# EAGLE library part N-PMOSFET (library N-PMosfet)
http://www.digikey.com/product-detail/en/stmicroelectronics/STL40C30H3LL/497-15314-1-ND/5170833
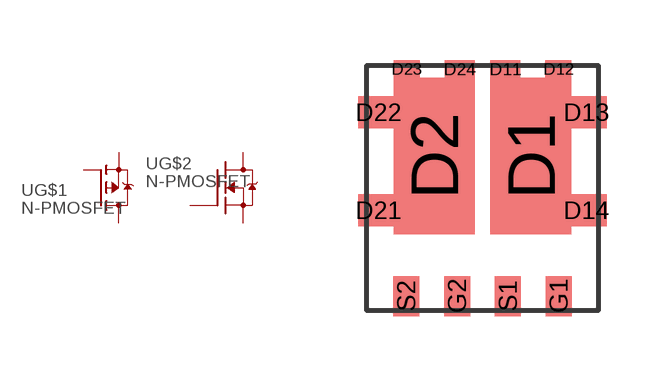
[diagram p0: symbol with the pads of 5X6POWERFLAT; footprint 5X6POWERFLAT]

Designator prefix -; gates G$1=P-MOSFET G$2=N-MOSFET-GDS-D

## N-PMOSFET  [5X6POWERFLAT]
D1  G$1:D  pas
D2  G$2:D  pas
D11  G$1:D  pas
D12  G$1:D  pas
D13  G$1:D  pas
D14  G$1:D  pas
D21  G$2:D  pas
D22  G$2:D  pas
D23  G$2:D  pas
D24  G$2:D  pas
G1  G$1:G  pas
G2  G$2:G  pas
S1  G$1:S  pas
S2  G$2:S  pas

## Footprint 5X6POWERFLAT (pad centres in mm)
smd 2.025 x 3.9: D1 1.21,1.95; D2 -1.21,1.95
smd 0.75 x 0.45: D11 0.572,4.125; D24 -0.572,4.125
smd 0.65 x 0.45: D12 1.898,4.125; D23 -1.898,4.125
smd 1 x 0.8: D13 2.6,3.04; D14 2.6,0.59; D21 -2.6,0.59; D22 -2.6,3.04
smd 0.65 x 1: G1 1.905,-1.55; G2 -0.635,-1.55; S1 0.635,-1.55; S2 -1.905,-1.55